# Altium schematic symbol library DSP_Freescale.SchLib: 1 symbol
Pins are listed as number, name and electrical type; pins without a type are passive.

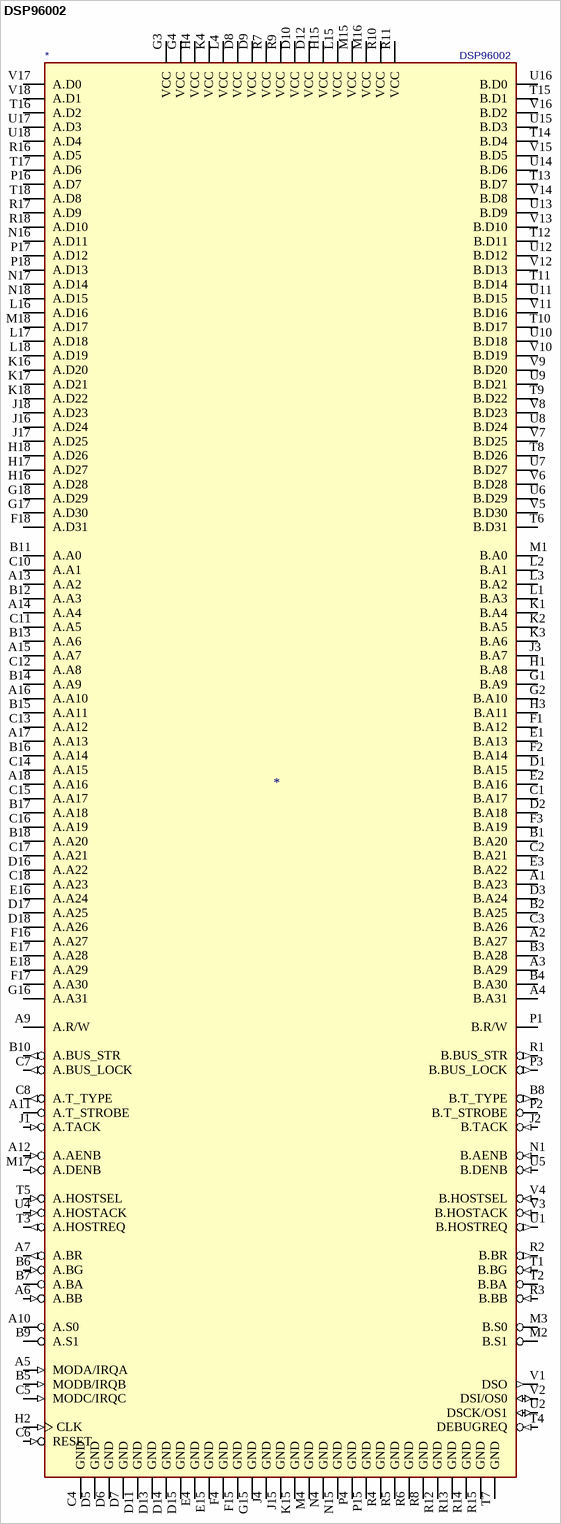
[diagram p0: symbol DSP96002]

## DSP96002
designator *  value DSP96002
ki_keywords: DSP 32bit Dual Port Processor; ki_description: 32-bit General Purpose Floating-point DSP, Dual Port, PGA-223; ki_fp_filters: PGA-223*; Supplier: http://cache.freescale.com/files/dsp/doc/inactive/DSP96002.pdf
pins: A1 B.A23 (hiz), A2 B.A27 (hiz), A3 B.A29 (hiz), A4 B.A31 (hiz), A5 MODA/IRQA (in), A6 A.BB (in), A7 A.BR (out), A9 A.R/W (hiz), A10 A.S0 (hiz), A11 A.T_STROBE (hiz), A12 A.AENB (in), A13 A.A2 (hiz), A14 A.A4 (hiz), A15 A.A7 (hiz), A16 A.A10 (hiz), A17 A.A13 (hiz), A18 A.A16 (hiz), B1 B.A20 (hiz), B2 B.A25 (hiz), B3 B.A28 (hiz), B4 B.A30 (hiz), B5 MODB/IRQB (in), B6 A.BG (in), B7 A.BA (oc), B8 B.T_TYPE (out), B9 A.S1 (hiz), B10 A.BUS_STR (out), B11 A.A0 (hiz), B12 A.A3 (hiz), B13 A.A6 (hiz), B14 A.A9 (hiz), B15 A.A11 (hiz), B16 A.A14 (hiz), B17 A.A18 (hiz), B18 A.A20 (hiz), C1 B.A17 (hiz), C2 B.A21 (hiz), C3 B.A26 (hiz), C4 GND (power), C5 MODC/IRQC (in), C6 RESET (in), C7 A.BUS_LOCK (out), C8 A.T_TYPE (out), C10 A.A1 (hiz), C11 A.A5 (hiz), C12 A.A8 (hiz), C13 A.A12 (hiz), C14 A.A15 (hiz), C15 A.A17 (hiz), C16 A.A19 (hiz), C17 A.A21 (hiz), C18 A.A23 (hiz), D1 B.A15 (hiz), D2 B.A18 (hiz), D3 B.A24 (hiz), D5 GND (power), D6 GND (power), D7 GND (power), D8 VCC (power), D9 VCC (power), D10 VCC (power), D11 GND (power), D12 VCC (power), D13 GND (power), D14 GND (power), D15 GND (power), D16 A.A22 (hiz), D17 A.A25 (hiz), D18 A.A26 (hiz), E1 B.A13 (hiz), E2 B.A16 (hiz), E3 B.A22 (hiz), E4 GND (power), E15 GND (power), E16 A.A24 (hiz), E17 A.A28 (hiz), E18 A.A29 (hiz), F1 B.A12 (hiz), F2 B.A14 (hiz), F3 B.A19 (hiz), F4 GND (power), F15 GND (power), F16 A.A27 (hiz), F17 A.A30 (hiz), F18 A.D31 (hiz), G1 B.A9 (hiz), G2 B.A10 (hiz), G3 VCC (power), G4 VCC (power), G15 GND (power), G16 A.A31 (hiz), G17 A.D30 (hiz), G18 A.D29 (hiz), H1 B.A8 (hiz), H2 CLK (in), H3 B.A11 (hiz), H4 VCC (power), H15 VCC (power), H16 A.D28 (hiz), H17 A.D27 (hiz), H18 A.D26 (hiz), J1 A.TACK (in), J2 B.TACK (in), J3 B.A7 (hiz), J4 GND (power), J15 GND (power), J16 A.D24 (hiz), J17 A.D25 (hiz), J18 A.D23 (hiz), K1 B.A4 (hiz), K2 B.A5 (hiz), K3 B.A6 (hiz), K4 VCC (power), K15 GND (power), K16 A.D20 (hiz), K17 A.D21 (hiz), K18 A.D22 (hiz), L1 B.A3 (hiz), L2 B.A1 (hiz), L3 B.A2 (hiz), L4 VCC (power), L15 VCC (power), L16 A.D16 (hiz), L17 A.D18 (hiz), L18 A.D19 (hiz), M1 B.A0 (hiz), M2 B.S1 (hiz), M3 B.S0 (hiz), M4 GND (power), M15 VCC (power), M16 VCC (power), M17 A.DENB (in), M18 A.D17 (hiz), N1 B.AENB (in), N4 GND (power), N15 GND (power), N16 A.D11 (hiz), N17 A.D14 (hiz), N18 A.D15 (hiz), P1 B.R/W (hiz), P2 B.T_STROBE (hiz), P3 B.BUS_LOCK (out), P4 GND (power), P15 GND (power), P16 A.D7 (hiz), P17 A.D12 (hiz), P18 A.D13 (hiz), R1 B.BUS_STR (out), R2 B.BR (out), R3 B.BB (in), R4 GND (power), R5 GND (power), R6 GND (power), R7 VCC (power), R8 GND (power), R9 VCC (power), R10 VCC (power), R11 VCC (power), R12 GND (power), R13 GND (power), R14 GND (power), R15 GND (power), R16 A.D5 (hiz), R17 A.D9 (hiz), R18 A.D10 (hiz), T1 B.BG (in), T2 B.BA (oc), T3 A.HOSTREQ (out), T4 DEBUGREQ (in), T5 A.HOSTSEL (in), T6 B.D31 (hiz), T7 GND (power), T8 B.D26 (hiz), T9 B.D22 (hiz), T10 B.D17 (hiz), T11 B.D14 (hiz), T12 B.D11 (hiz), T13 B.D7 (hiz), T14 B.D4 (hiz), T15 B.D1 (hiz), T16 A.D2 (hiz), T17 A.D6 (hiz), T18 A.D8 (hiz), U1 B.HOSTREQ (out), U2 DSCK/OS1 (io), U4 A.HOSTACK (in), U5 B.DENB (in), U6 B.D29 (hiz), U7 B.D27 (hiz), U8 B.D24 (hiz), U9 B.D21 (hiz), U10 B.D18 (hiz), U11 B.D15 (hiz), U12 B.D12 (hiz), U13 B.D9 (hiz), U14 B.D6 (hiz), U15 B.D3 (hiz), U16 B.D0 (hiz), U17 A.D3 (hiz), U18 A.D4 (hiz), V1 DSO (out), V2 DSI/OS0 (io), V3 B.HOSTACK (in), V4 B.HOSTSEL (in), V5 B.D30 (hiz), V6 B.D28 (hiz), V7 B.D25 (hiz), V8 B.D23 (hiz), V9 B.D20 (hiz), V10 B.D19 (hiz), V11 B.D16 (hiz), V12 B.D13 (hiz), V13 B.D10 (hiz), V14 B.D8 (hiz), V15 B.D5 (hiz), V16 B.D2 (hiz), V17 A.D0 (hiz), V18 A.D1 (hiz)